# Altium schematic symbol library Misc.SchLib: 2 symbols
Pins are listed as number, name and electrical type; pins without a type are passive.

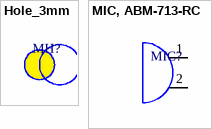
[diagram p0: symbols Hole_3mm to MIC, ABM-713-RC]

## Hole_3mm
designator MH?  (value not drawn)

## MIC, ABM-713-RC
designator MIC?
MIC, 2-10V, 50Hz- 16kHz, Zout=2.2k, fi 6mm; OrderCode: ABM-713-RC; Value: ABM-713-RC; ComponentLink1Description: Datasheet; ComponentLink2Description: Farnell; ComponentLink1URL: https://github.com/liparrok/Altium/blob/master/Libraries/Datasheet/ABM-713-RC.pdf; ComponentLink2URL: http://si.farnell.com/pro-signal/abm-713-rc/electret-microphone-omni-pcb-pins/dp/2066499; Other: *
pins: 1, 2